# Altium footprint library SOIC127P600X175_8N.PcbLib: 1 footprints
Each footprint in its own frame and in the unit in brackets; x right, y up, seen from the top. Pads: shape width x height; smd on the part's side, far side on the other; paste and mask are expansions set on the pad; w line width, h text height; cw(c..) or ccw(c..) is an arc to the next point about the centre after c.
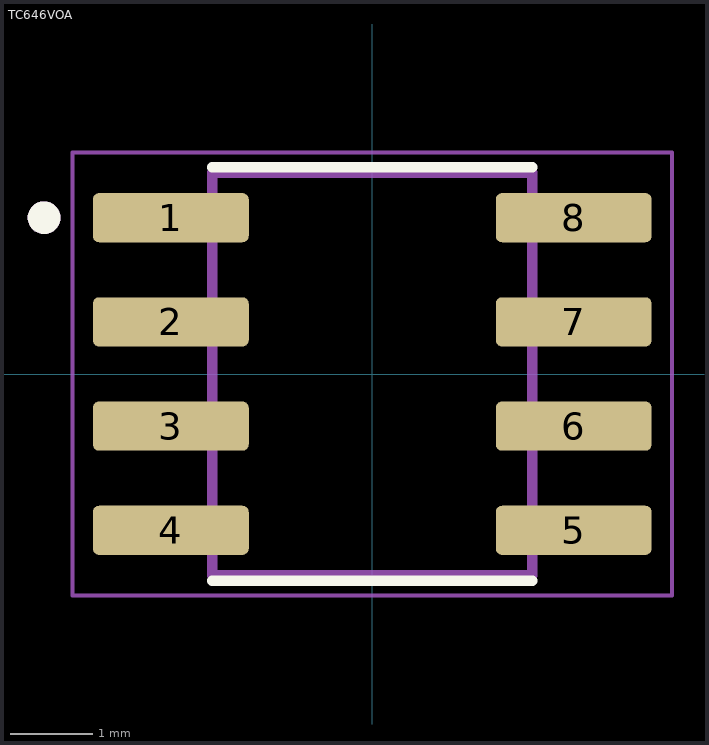
[diagram p0: the footprint, top view; thin cyan lines are the x and y axes]

## TC646VOA [mm] "Motor Drive"
pads (8):
  rrect25% 1.9x0.6 smd: 1(-2.455,1.905) 2(-2.455,0.635) 3(-2.455,-0.635) 4(-2.455,-1.905) 5(2.455,-1.905) 6(2.455,-0.635) 7(2.455,0.635) 8(2.455,1.905)
Top Overlay:
  circle w0.2: c-4,1.905 r0.1
  lines w0.127: -1.95,-2.52 1.95,-2.52 ; -1.95,2.52 1.95,2.52
Mechanical 13:
  circle w0.2: c-4,1.905 r0.1
  lines w0.127: -1.95,-2.45 -1.95,2.45 1.95,2.45 1.95,-2.45 -1.95,-2.45
Mechanical 15:
  lines w0.05: -3.655,-2.7 -3.655,2.7 3.655,2.7 3.655,-2.7 -3.655,-2.7
3D body "step_temp.STEP": height 1.75, standoff 0, extent -2.997,-2.451 2.997,2.451